# Altium schematic symbol library Power Distribution Board.SCHLIB: 17 symbols
Pins are listed as number, name and electrical type; pins without a type are passive.

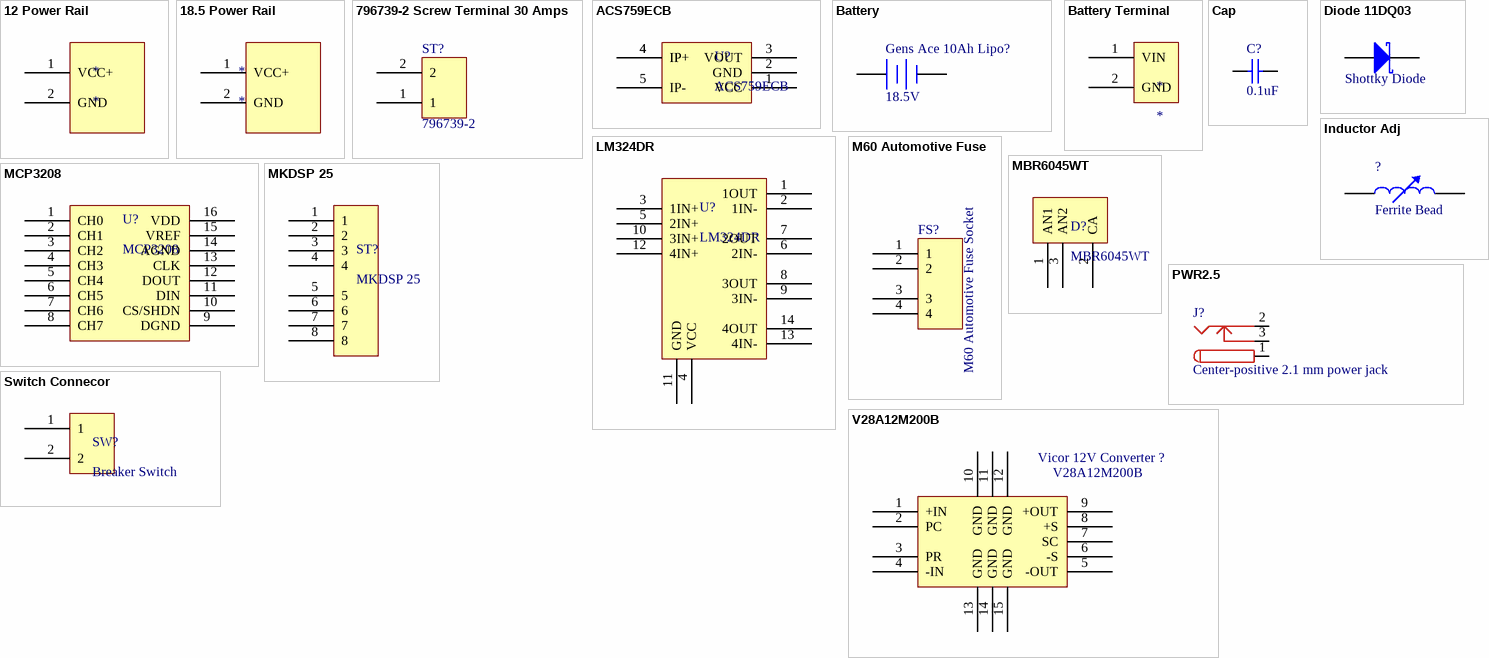
[diagram p0: symbols 12 Power Rail to V28A12M200B]

## 12 Power Rail
designator *
footprint Power Rail 12
pins: 1 VCC+, 2 GND

## 18.5 Power Rail
designator *
footprint Power Rail Pad (Custom pad for WAVE power rails)
pins: 1 VCC+, 2 GND

## 796739-2 Screw Terminal 30 Amps
designator ST?, comment 796739-2
footprint 796739-2 (796739-2 30Amp Screw Terminal block)
pins: 1, 2

## ACS759ECB
designator U?
footprint ACS759ECB (Current Sensor)
pins: 1 VCC, 2 GND, 3 VOUT, 4 IP+ hidden, 4 IP+, 5 IP-

## Battery
designator Gens Ace 10Ah Lipo?, comment 18.5V
Multicell Battery; Published: 24-Mar-1999; LatestRevisionDate: 17-Jul-2002; LatestRevisionNote: Re-released for DXP Platform.; PackageReference: BAT-2; Publisher: Altium Limited; PackageDescription: Battery; 2 Leads
footprint BAT-2 (Battery; 2 Leads)
pins: 1 +, 2 -

## Battery Terminal
designator *
footprint Battery Terminal (Custom batery Terminal)
pins: 1 VIN, 2 GND

## Cap
designator C?  value 0.1uF
Capacitor; Published: 8-Jun-2000; LatestRevisionDate: 17-Jul-2002; LatestRevisionNote: Re-released for DXP Platform.; PackageReference: RAD-0.3; Publisher: Altium Limited; PackageDescription: Radial Cap, Thru-Hole; 2 Leads; 0.3 in Pin Spacing
footprint RAD-0.3 (Radial Cap, Thru-Hole; 2 Leads; 0.3 in Pin Spacing)
simulation model CAP (Capacitor)
signal-integrity model Cap
pins: 1, 2

## Diode 11DQ03
designator D?, comment Shottky Diode
Schottky Rectifier; Published: 8-Jun-2000; LatestRevisionDate: 17-Jul-2002; LatestRevisionNote: Re-released for DXP Platform.; DatasheetVersion: Dec-1997; PackageReference: DO-204AL; Publisher: Altium Limited; PackageDescription: Diode, Axial; Body 5.2 x 2.7 mm (LxDia. max), Lead Dia. 0.86 mm (max); Code_JEDEC: DO-204-AL; ComponentLink1Description: Manufacturer Link; ComponentLink1URL: http://www.irf.com/; ComponentLink2Description: Datasheet; ComponentLink2URL: http://www.irf.com/product-info/datasheets/data/11dq03.pdf
footprint DO-204AL (Diode, Axial; Body 5.2 x 2.7 mm (LxDia. max), Lead Dia. 0.86 mm (max))
simulation model 11DQ03 (DIODE)
pins: 1 A, 2 K

## Inductor Adj
designator ?, comment Ferrite Bead
Adjustable Inductor; Set Position: 0.5; Published: 24-Mar-1999; LatestRevisionDate: 17-Jul-2002; LatestRevisionNote: Re-released for DXP Platform.; PackageReference: AXIAL-0.8; Publisher: Altium Limited; PackageDescription: Axial Device, Thru-Hole; 2 Leads; 0.8 in Pin Spacing
footprint AXIAL-0.8 (Axial Device, Thru-Hole; 2 Leads; 0.8 in Pin Spacing)
simulation model INDUCTOR (Inductor)
signal-integrity model Inductor Adj
pins: 1, 2

## LM324DR
designator U?
footprint LM324DR - duplicate (LM324DR OPAMP)
pins: 1 1OUT, 2 1IN-, 3 1IN+, 4 VCC, 5 2IN+, 6 2IN-, 7 2OUT, 8 3OUT, 9 3IN-, 10 3IN+, 11 GND, 12 4IN+, 13 4IN-, 14 4OUT

## M60 Automotive Fuse
designator FS?, comment M60 Automotive Fuse Socket
Automotive Fuse Socket
footprint M60 (Automotive Fuse Socket)
pins: 1, 2, 3, 4

## MBR6045WT
designator D?
footprint MBR6045WT (Rectifier Diode)
pins: 1 AN1, 2 CA, 3 AN2

## MCP3208
designator U?
footprint MCP3208 - duplicate (MCP3208 8 Channel ADC)
pins: 1 CH0, 2 CH1, 3 CH2, 4 CH3, 5 CH4, 6 CH5, 7 CH6, 8 CH7, 9 DGND, 10 CS/SHDN, 11 DIN, 12 DOUT, 13 CLK, 14 AGND, 15 VREF, 16 VDD

## MKDSP 25
designator ST?
High Current Screw Terminal
footprint MKDSP 25 (MKDSP 25 High Current Screw Terminal)
pins: 1, 2, 3, 4, 5, 6, 7, 8

## PWR2.5
designator J?, comment Center-positive 2.1 mm power jack
Power jack; Published: 17-Dec-2003; DatasheetDocument: 09-May-2002; Publisher: Altium Limited; ComponentLink1Description: Manufacturer Link; ComponentLink1URL: http://domino.kycon.com/internet/Products.html
signal-integrity model Connector
footprint PJ-102AH (Center positive 2.1 mm power jack)
pins: 1 (power), 2 (power), 3 (power)

## Switch Connecor
designator SW?, comment Breaker Switch
Breaker Switch Connector
footprint Breaker Switch Connection
pins: 1, 2

## V28A12M200B
designator Vicor 12V Converter ?
V28A12M200B 12V DC/DC Converter
footprint Vicor Maxi DC DC Converter
pins: 1 +IN, 2 PC, 3 PR, 4 -IN, 5 -OUT, 6 -S, 7 SC, 8 +S, 9 +OUT, 10 GND, 11 GND, 12 GND, 13 GND, 14 GND, 15 GND